# Altium footprint library F1CX00S.PcbLib: 1 footprints
Each footprint in its own frame and in the unit in brackets; x right, y up, seen from the top. Pads: shape width x height; smd on the part's side, far side on the other; paste and mask are expansions set on the pad; w line width, h text height; cw(c..) or ccw(c..) is an arc to the next point about the centre after c.
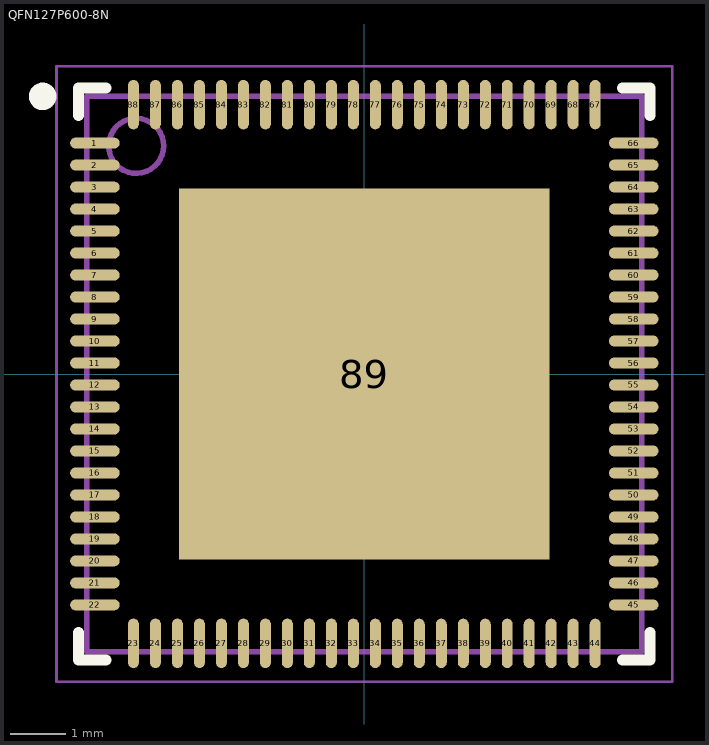
[diagram p0: the footprint, top view; thin cyan lines are the x and y axes]

## QFN127P600-8N [mm] "Allwiner new embedded processor with arm-a9"
height 0.85
pads (89):
  oval 0.9x0.2 smd: 1(-4.9,4.2) 2(-4.9,3.8) 3(-4.9,3.4) 4(-4.9,3) 5(-4.9,2.6) 6(-4.9,2.2) 7(-4.9,1.8) 8(-4.9,1.4) 9(-4.9,1) 10(-4.9,0.6) 11(-4.9,0.2) 12(-4.9,-0.2) 13(-4.9,-0.6) 14(-4.9,-1) 15(-4.9,-1.4) 16(-4.9,-1.8) 17(-4.9,-2.2) 18(-4.9,-2.6) 19(-4.9,-3) 20(-4.9,-3.4) 21(-4.9,-3.8) 22(-4.9,-4.2) 45(4.9,-4.2) 46(4.9,-3.8) 47(4.9,-3.4) 48(4.9,-3) 49(4.9,-2.6) 50(4.9,-2.2) 51(4.9,-1.8) 52(4.9,-1.4) 53(4.9,-1) 54(4.9,-0.6) 55(4.9,-0.2) 56(4.9,0.2) 57(4.9,0.6) 58(4.9,1) 59(4.9,1.4) 60(4.9,1.8) 61(4.9,2.2) 62(4.9,2.6) 63(4.9,3) 64(4.9,3.4) 65(4.9,3.8) 66(4.9,4.2)
  oval 0.2x0.9 smd: 23(-4.2,-4.9) 24(-3.8,-4.9) 25(-3.4,-4.9) 26(-3,-4.9) 27(-2.6,-4.9) 28(-2.2,-4.9) 29(-1.8,-4.9) 30(-1.4,-4.9) 31(-1,-4.9) 32(-0.6,-4.9) 33(-0.2,-4.9) 34(0.2,-4.9) 35(0.6,-4.9) 36(1,-4.9) 37(1.4,-4.9) 38(1.8,-4.9) 39(2.2,-4.9) 40(2.6,-4.9) 41(3,-4.9) 42(3.4,-4.9) 43(3.8,-4.9) 44(4.2,-4.9) 67(4.2,4.9) 68(3.8,4.9) 69(3.4,4.9) 70(3,4.9) 71(2.6,4.9) 72(2.2,4.9) 73(1.8,4.9) 74(1.4,4.9) 75(1,4.9) 76(0.6,4.9) 77(0.2,4.9) 78(-0.2,4.9) 79(-0.6,4.9) 80(-1,4.9) 81(-1.4,4.9) 82(-1.8,4.9) 83(-2.2,4.9) 84(-2.6,4.9) 85(-3,4.9) 86(-3.4,4.9) 87(-3.8,4.9) 88(-4.2,4.9)
  rect 6.74x6.74 smd: 89(0,0)
Top Overlay:
  circle w0.25: c-5.85,5.05 r0.125
  lines w0.2: -5.2,-4.7 -5.2,-5.2 -4.7,-5.2 ; -5.2,4.7 -5.2,5.2 -4.7,5.2 ; 4.7,-5.2 5.2,-5.2 5.2,-4.7 ; 4.7,5.2 5.2,5.2 5.2,4.7
Mechanical 13:
  circle w0.1: c-4.15,4.15 r0.5
  lines w0.1: -5.05,-5.05 -5.05,5.05 5.05,5.05 5.05,-5.05 -5.05,-5.05
Mechanical 15:
  lines w0.05: -5.6,-5.6 -5.6,5.6 5.6,5.6 5.6,-5.6 -5.6,-5.6
  lines w0.1: -0.5,0 0.5,0 ; 0,-0.5 0,0.5
3D body: height 0.85, standoff 0.02, extent -5.05,-5.05 5.05,5.05